# Altium schematic symbol library STM32L011G4U7.SchLib: 2 symbols
Pins are listed as number, name and electrical type; pins without a type are passive.

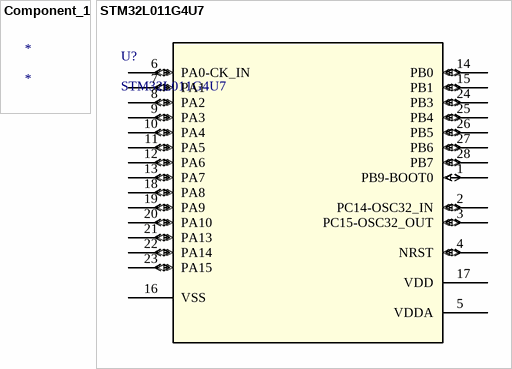
[diagram p0: symbols Component_1 to STM32L011G4U7]

## Component_1
designator *

## STM32L011G4U7
designator U?
No Description Available; Mfr_Name: STMicroelectronics; Copyright: Copyright (C) 2022 Ultra Librarian. All rights reserved.; Manufacturer_Part_Number: STM32L011G4U7; Digi-Key_Part_Number_1: STM32L011G4U7-ND; RefDes: RefDes; Type: DEV
footprint UFQFPN28-4x4mm
pins: 1 PB9-BOOT0 (in), 2 PC14-OSC32_IN (io), 3 PC15-OSC32_OUT (io), 4 NRST (io), 5 VDDA (power), 6 PA0-CK_IN (io), 7 PA1 (io), 8 PA2 (io), 9 PA3 (io), 10 PA4 (io), 11 PA5 (io), 12 PA6 (io), 13 PA7 (io), 14 PB0 (io), 15 PB1 (io), 16 VSS (power), 17 VDD (power), 18 PA8 (io), 19 PA9 (io), 20 PA10 (io), 21 PA13 (io), 22 PA14 (io), 23 PA15 (io), 24 PB3 (io), 25 PB4 (io), 26 PB5 (io), 27 PB6 (io), 28 PB7 (io)